# Altium integrated library Analog Devices Data Converters Digital-to-Analog Converters.IntLib: 2231 symbols (part 137 of 181)
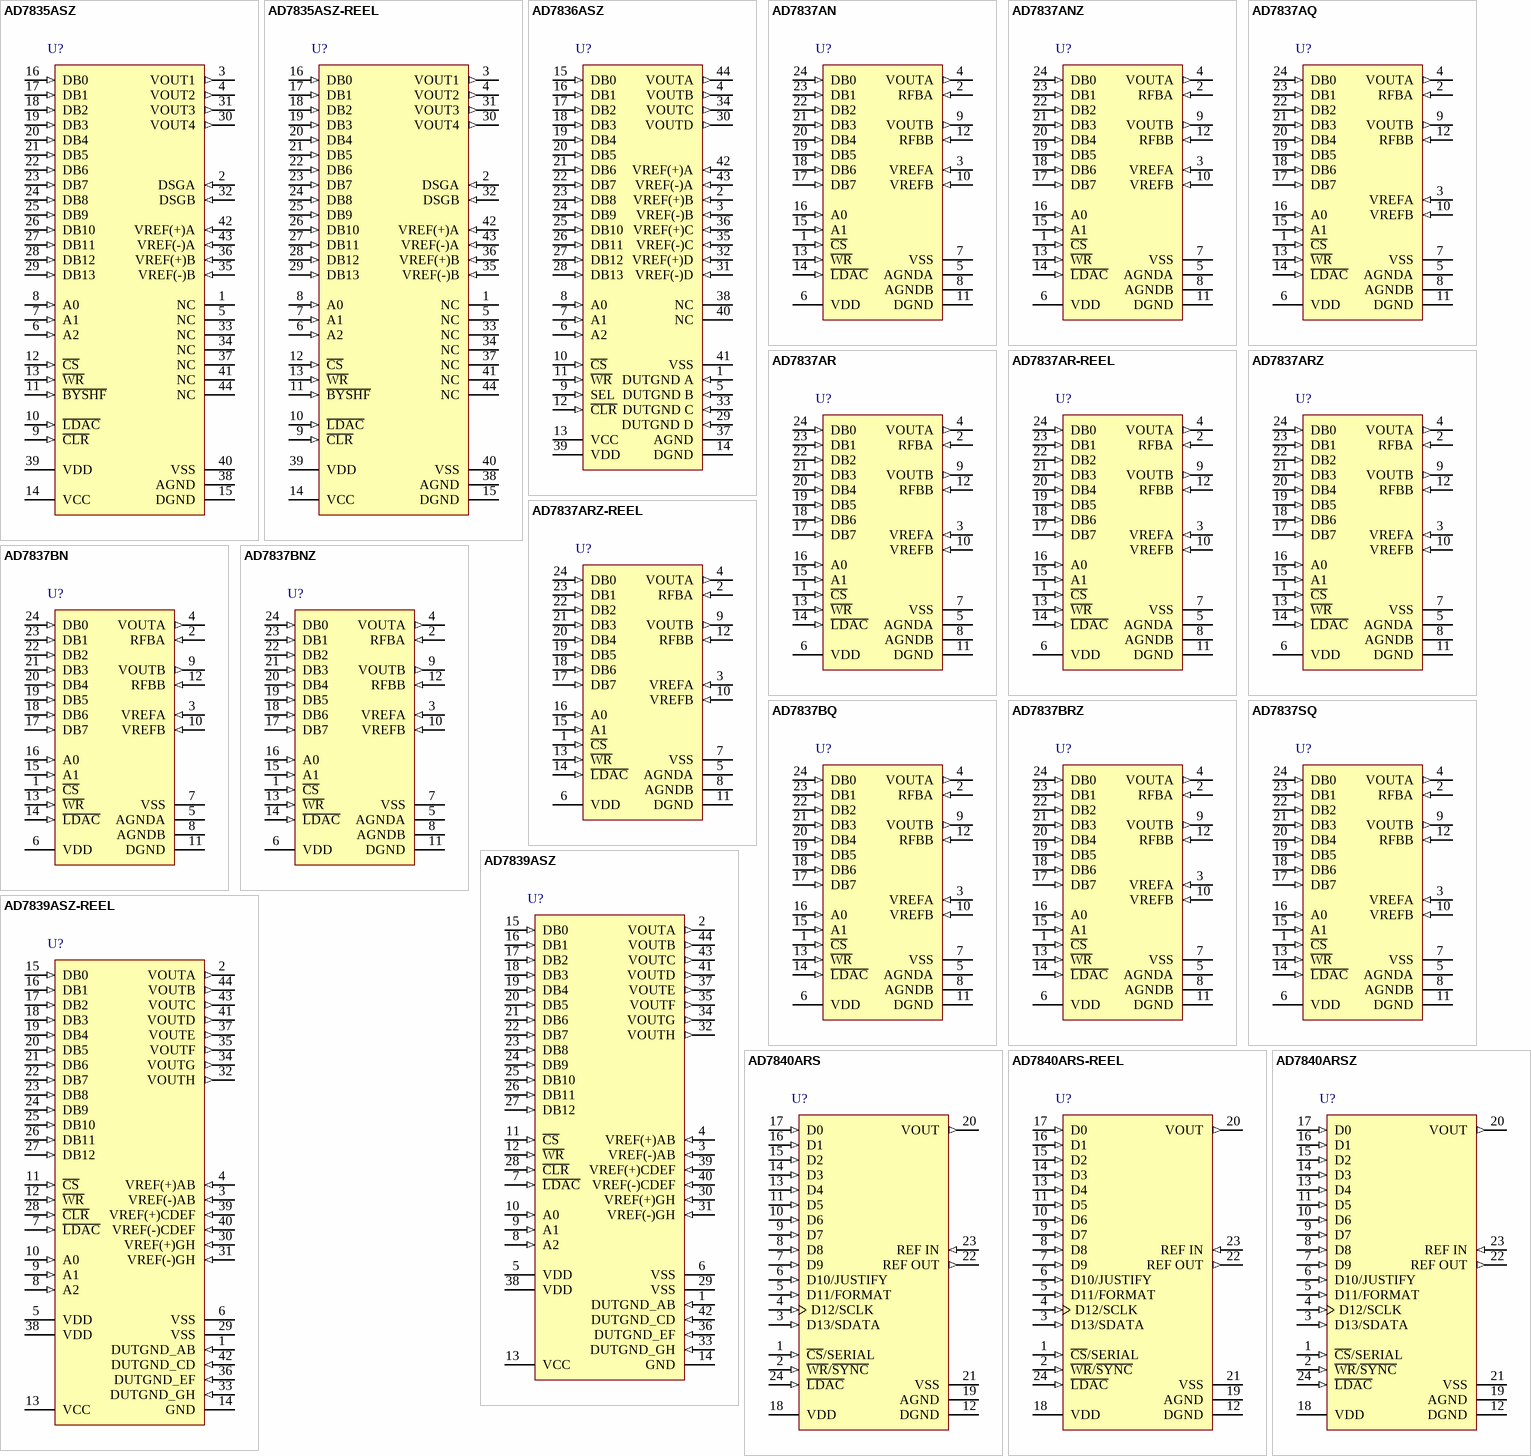
[diagram p250: symbols AD7835ASZ to AD7840ARSZ]

## AD7837ARZ
designator U?
Dual 12-Bit LC2MOS Complete MDAC, -40 to +85 degC, RW-24, Pb-Free, Tube; Generic Part Number: AD7837; Manufacturer: Analog Devices; PartNumber: AD7837ARZ; # DAC Outputs: 2; Max V+: 15.75V; Op Pwr Diss: 210mW; Resolution (Bits): 12; Settling Time: 4µs; Single Supply: No; DatasheetVersion: C01007a-0-8/00 (rev. C); PackageVersion: 060706-A; PackageReference: RW-24; PackageDescription: 24-Lead Standard Small Outline Package [SOIC_W]; Supplier 1: Digi-Key; Supplier Part Number 1: AD7837ARZ-ND; Supplier 2: Newark; Supplier Part Number 2: 59K5628; Supplier 3: Mouser; Supplier Part Number 3: 584-AD7837ARZ; Packing: Tube; RoHS: Y; Mounting Technology: Surface Mount; Code_JEDEC: MS-013-AD; ComponentLink1Description: Manufacturer URL; ComponentLink1URL: http://www.analog.com/en/index.html; ComponentLink2Description: Datasheet; ComponentLink2URL: http://www.analog.com/static/imported-files/data_sheets/AD7837_7847.pdf; ComponentLink3Description: Package Specification; ComponentLink3URL: http://www.analog.com/static/imported-files/packages/33665150946139RW_24.pdf; ComponentLink4Description: Product URL; ComponentLink4URL: http://www.analog.com/en/digital-to-analog-converters/da-converters/ad7837/products/product.html
footprint RW-24_N (SOIC, 24-Leads, Body 15.4x7.5mm, Pitch 1.27mm, IPC Medium Density)
footprint RW-24_L (SOIC, 24-Leads, Body 15.4x7.5mm, Pitch 1.27mm, IPC High Density)
footprint RW-24_M (SOIC, 24-Leads, Body 15.4x7.5mm, Pitch 1.27mm, IPC Low Density)
pins: 1 ~{CS} (in) "Chip Select. Active low logic input. The device is selected when this input is active.", 2 RFBA (in) "Amplifier Feedback Resistor for DAC A.", 3 VREFA (in) "Reference Input Voltage for DAC A. This may be an ac or dc signal.", 4 VOUTA (out) "Analog Output Voltage from DAC A.", 5 AGNDA (power) "Analog Ground for DAC A.", 6 VDD (power) "Positive Power Supply.", 7 VSS (power) "Negative Power Supply.", 8 AGNDB (power) "Analog Ground for DAC B.", 9 VOUTB (out) "Analog Output Voltage from DAC B.", 10 VREFB (in) "Reference Input Voltage for DAC B. This may be an ac or dc signal.", 11 DGND (power) "Digital Ground. Ground reference for digital circuitry.", 12 RFBB (in) "Amplifier Feedback Resistor for DAC B.", 13 ~{WR} (in) "Write Input. W\R\ is an active low logic input which is used in conjunction with C\S\, A0 and A1 to write data to the input latches.", 14 ~{LDAC} (in) "DAC Update Logic Input. Data is transferred from the input latches to the DAC latches when L\D\A\C\ is taken low.", 15 A1 (in) "Address Input. Most significant address input for input latches (see Table II).", 16 A0 (in) "Address Input. Least significant address input for input latches (see Table II).", 17 DB7 (in) "Data Bit 7.", 18 DB6 (in) "Data Bit 6.", 19 DB5 (in) "Data Bit 5.", 20 DB4 (in) "Data Bit 4.", 21 DB3 (in) "Data Bit 3 or Data Bit 11 (MSB)", 22 DB2 (in) "Data Bit 2 or Data Bit 10", 23 DB1 (in) "Data Bit 1 or Data Bit 9", 24 DB0 (in) "Data Bit 0 (LSB) or Data Bit 8"

## AD7837ARZ-REEL
designator U?
Dual 12-Bit LC2MOS Complete MDAC, -40 to +85 degC, RW-24, Pb-Free, Reel; Generic Part Number: AD7837; Manufacturer: Analog Devices; PartNumber: AD7837ARZ-REEL; # DAC Outputs: 2; Max V+: 15.75V; Op Pwr Diss: 210mW; Resolution (Bits): 12; Settling Time: 4µs; Single Supply: No; DatasheetVersion: C01007a-0-8/00 (rev. C); PackageVersion: 060706-A; PackageReference: RW-24; PackageDescription: 24-Lead Standard Small Outline Package [SOIC_W]; Supplier 1: Digi-Key; Supplier Part Number 1: AD7837ARZ-REEL-ND; Supplier 2: Mouser; Supplier Part Number 2: 584-AD7837ARZ-R; Packing: Reel; RoHS: Y; Mounting Technology: Surface Mount; Code_JEDEC: MS-013-AD; ComponentLink1Description: Manufacturer URL; ComponentLink1URL: http://www.analog.com/en/index.html; ComponentLink2Description: Datasheet; ComponentLink2URL: http://www.analog.com/static/imported-files/data_sheets/AD7837_7847.pdf; ComponentLink3Description: Package Specification; ComponentLink3URL: http://www.analog.com/static/imported-files/packages/33665150946139RW_24.pdf; ComponentLink4Description: Product URL; ComponentLink4URL: http://www.analog.com/en/digital-to-analog-converters/da-converters/ad7837/products/product.html
footprint RW-24_N (SOIC, 24-Leads, Body 15.4x7.5mm, Pitch 1.27mm, IPC Medium Density)
footprint RW-24_L (SOIC, 24-Leads, Body 15.4x7.5mm, Pitch 1.27mm, IPC High Density)
footprint RW-24_M (SOIC, 24-Leads, Body 15.4x7.5mm, Pitch 1.27mm, IPC Low Density)
pins: 1 ~{CS} (in) "Chip Select. Active low logic input. The device is selected when this input is active.", 2 RFBA (in) "Amplifier Feedback Resistor for DAC A.", 3 VREFA (in) "Reference Input Voltage for DAC A. This may be an ac or dc signal.", 4 VOUTA (out) "Analog Output Voltage from DAC A.", 5 AGNDA (power) "Analog Ground for DAC A.", 6 VDD (power) "Positive Power Supply.", 7 VSS (power) "Negative Power Supply.", 8 AGNDB (power) "Analog Ground for DAC B.", 9 VOUTB (out) "Analog Output Voltage from DAC B.", 10 VREFB (in) "Reference Input Voltage for DAC B. This may be an ac or dc signal.", 11 DGND (power) "Digital Ground. Ground reference for digital circuitry.", 12 RFBB (in) "Amplifier Feedback Resistor for DAC B.", 13 ~{WR} (in) "Write Input. W\R\ is an active low logic input which is used in conjunction with C\S\, A0 and A1 to write data to the input latches.", 14 ~{LDAC} (in) "DAC Update Logic Input. Data is transferred from the input latches to the DAC latches when L\D\A\C\ is taken low.", 15 A1 (in) "Address Input. Most significant address input for input latches (see Table II).", 16 A0 (in) "Address Input. Least significant address input for input latches (see Table II).", 17 DB7 (in) "Data Bit 7.", 18 DB6 (in) "Data Bit 6.", 19 DB5 (in) "Data Bit 5.", 20 DB4 (in) "Data Bit 4.", 21 DB3 (in) "Data Bit 3 or Data Bit 11 (MSB)", 22 DB2 (in) "Data Bit 2 or Data Bit 10", 23 DB1 (in) "Data Bit 1 or Data Bit 9", 24 DB0 (in) "Data Bit 0 (LSB) or Data Bit 8"

## AD7837BN
designator U?
Dual 12-Bit LC2MOS Complete MDAC, -40 to +85 degC, N-24-1, Tube; Generic Part Number: AD7837; Manufacturer: Analog Devices; PartNumber: AD7837BN; # DAC Outputs: 2; Max V+: 15.75V; Op Pwr Diss: 210mW; Resolution (Bits): 12; Settling Time: 4µs; Single Supply: No; DatasheetVersion: C01007a-0-8/00 (rev. C); PackageVersion: 071006-A; PackageReference: N-24-1; PackageDescription: 24-Lead Plastic Dual In-Line Package [PDIP] Narrow Body; Supplier 1: Digi-Key; Supplier Part Number 1: AD7837BN-ND; Supplier 2: Mouser; Supplier Part Number 2: 584-AD7837BN; Packing: Tube; RoHS: N; Mounting Technology: Through Hole; Code_JEDEC: MS-001; ComponentLink1Description: Manufacturer URL; ComponentLink1URL: http://www.analog.com/en/index.html; ComponentLink2Description: Datasheet; ComponentLink2URL: http://www.analog.com/static/imported-files/data_sheets/AD7837_7847.pdf; ComponentLink3Description: Package Specification; ComponentLink3URL: http://www.analog.com/static/imported-files/packages/50726455539629N_24_1.pdf; ComponentLink4Description: Product URL; ComponentLink4URL: http://www.analog.com/en/digital-to-analog-converters/da-converters/ad7837/products/product.html
footprint N-24-1 (DIP, 24-Leads, Row Spacing 7.62mm, Pitch 2.54mm, Body 31.9x6.6mm)
pins: 1 ~{CS} (in) "Chip Select. Active low logic input. The device is selected when this input is active.", 2 RFBA (in) "Amplifier Feedback Resistor for DAC A.", 3 VREFA (in) "Reference Input Voltage for DAC A. This may be an ac or dc signal.", 4 VOUTA (out) "Analog Output Voltage from DAC A.", 5 AGNDA (power) "Analog Ground for DAC A.", 6 VDD (power) "Positive Power Supply.", 7 VSS (power) "Negative Power Supply.", 8 AGNDB (power) "Analog Ground for DAC B.", 9 VOUTB (out) "Analog Output Voltage from DAC B.", 10 VREFB (in) "Reference Input Voltage for DAC B. This may be an ac or dc signal.", 11 DGND (power) "Digital Ground. Ground reference for digital circuitry.", 12 RFBB (in) "Amplifier Feedback Resistor for DAC B.", 13 ~{WR} (in) "Write Input. W\R\ is an active low logic input which is used in conjunction with C\S\, A0 and A1 to write data to the input latches.", 14 ~{LDAC} (in) "DAC Update Logic Input. Data is transferred from the input latches to the DAC latches when L\D\A\C\ is taken low.", 15 A1 (in) "Address Input. Most significant address input for input latches (see Table II).", 16 A0 (in) "Address Input. Least significant address input for input latches (see Table II).", 17 DB7 (in) "Data Bit 7.", 18 DB6 (in) "Data Bit 6.", 19 DB5 (in) "Data Bit 5.", 20 DB4 (in) "Data Bit 4.", 21 DB3 (in) "Data Bit 3 or Data Bit 11 (MSB)", 22 DB2 (in) "Data Bit 2 or Data Bit 10", 23 DB1 (in) "Data Bit 1 or Data Bit 9", 24 DB0 (in) "Data Bit 0 (LSB) or Data Bit 8"

## AD7837BNZ
designator U?
Dual 12-Bit LC2MOS Complete MDAC, -40 to +85 degC, N-24-1, Pb-Free, Tube; Generic Part Number: AD7837; Manufacturer: Analog Devices; PartNumber: AD7837BNZ; # DAC Outputs: 2; Max V+: 15.75V; Op Pwr Diss: 210mW; Resolution (Bits): 12; Settling Time: 4µs; Single Supply: No; DatasheetVersion: C01007a-0-8/00 (rev. C); PackageVersion: 071006-A; PackageReference: N-24-1; PackageDescription: 24-Lead Plastic Dual In-Line Package [PDIP] Narrow Body; Supplier 1: Digi-Key; Supplier Part Number 1: AD7837BNZ-ND; Supplier 2: Newark; Supplier Part Number 2: 59K5630; Supplier 3: Mouser; Supplier Part Number 3: 584-AD7837BNZ; Packing: Tube; RoHS: Y; Mounting Technology: Through Hole; Code_JEDEC: MS-001; ComponentLink1Description: Manufacturer URL; ComponentLink1URL: http://www.analog.com/en/index.html; ComponentLink2Description: Datasheet; ComponentLink2URL: http://www.analog.com/static/imported-files/data_sheets/AD7837_7847.pdf; ComponentLink3Description: Package Specification; ComponentLink3URL: http://www.analog.com/static/imported-files/packages/50726455539629N_24_1.pdf; ComponentLink4Description: Product URL; ComponentLink4URL: http://www.analog.com/en/digital-to-analog-converters/da-converters/ad7837/products/product.html
footprint N-24-1 (DIP, 24-Leads, Row Spacing 7.62mm, Pitch 2.54mm, Body 31.9x6.6mm)
pins: 1 ~{CS} (in) "Chip Select. Active low logic input. The device is selected when this input is active.", 2 RFBA (in) "Amplifier Feedback Resistor for DAC A.", 3 VREFA (in) "Reference Input Voltage for DAC A. This may be an ac or dc signal.", 4 VOUTA (out) "Analog Output Voltage from DAC A.", 5 AGNDA (power) "Analog Ground for DAC A.", 6 VDD (power) "Positive Power Supply.", 7 VSS (power) "Negative Power Supply.", 8 AGNDB (power) "Analog Ground for DAC B.", 9 VOUTB (out) "Analog Output Voltage from DAC B.", 10 VREFB (in) "Reference Input Voltage for DAC B. This may be an ac or dc signal.", 11 DGND (power) "Digital Ground. Ground reference for digital circuitry.", 12 RFBB (in) "Amplifier Feedback Resistor for DAC B.", 13 ~{WR} (in) "Write Input. W\R\ is an active low logic input which is used in conjunction with C\S\, A0 and A1 to write data to the input latches.", 14 ~{LDAC} (in) "DAC Update Logic Input. Data is transferred from the input latches to the DAC latches when L\D\A\C\ is taken low.", 15 A1 (in) "Address Input. Most significant address input for input latches (see Table II).", 16 A0 (in) "Address Input. Least significant address input for input latches (see Table II).", 17 DB7 (in) "Data Bit 7.", 18 DB6 (in) "Data Bit 6.", 19 DB5 (in) "Data Bit 5.", 20 DB4 (in) "Data Bit 4.", 21 DB3 (in) "Data Bit 3 or Data Bit 11 (MSB)", 22 DB2 (in) "Data Bit 2 or Data Bit 10", 23 DB1 (in) "Data Bit 1 or Data Bit 9", 24 DB0 (in) "Data Bit 0 (LSB) or Data Bit 8"

## AD7837BQ
designator U?
Dual 12-Bit LC2MOS Complete MDAC, -40 to +85 degC, Q-24, Tube; Generic Part Number: AD7837; Manufacturer: Analog Devices; PartNumber: AD7837BQ; # DAC Outputs: 2; Max V+: 15.75V; Op Pwr Diss: 210mW; Resolution (Bits): 12; Settling Time: 4µs; Single Supply: No; DatasheetVersion: C01007a-0-8/00 (rev. C); PackageVersion: 2000; PackageReference: Q-24; PackageDescription: 24-Lead Ceramic Dual In-Line Package [CERDIP]; Supplier 1: Digi-Key; Supplier Part Number 1: AD7837BQ-ND; Supplier 2: Mouser; Supplier Part Number 2: 584-AD7837BQ; Packing: Tube; RoHS: N; Mounting Technology: Through Hole; ComponentLink1Description: Manufacturer URL; ComponentLink1URL: http://www.analog.com/en/index.html; ComponentLink2Description: Datasheet; ComponentLink2URL: http://www.analog.com/static/imported-files/data_sheets/AD7837_7847.pdf; ComponentLink3Description: Package Specification; ComponentLink3URL: http://www.analog.com/static/imported-files/data_sheets/AD7837_7847.pdf; ComponentLink4Description: Product URL; ComponentLink4URL: http://www.analog.com/en/digital-to-analog-converters/da-converters/ad7837/products/product.html
footprint Q-24 (DIP, 24-Leads, Row Spacing 7.62mm, Pitch 2.54mm, Body 31.9x6.7mm)
pins: 1 ~{CS} (in) "Chip Select. Active low logic input. The device is selected when this input is active.", 2 RFBA (in) "Amplifier Feedback Resistor for DAC A.", 3 VREFA (in) "Reference Input Voltage for DAC A. This may be an ac or dc signal.", 4 VOUTA (out) "Analog Output Voltage from DAC A.", 5 AGNDA (power) "Analog Ground for DAC A.", 6 VDD (power) "Positive Power Supply.", 7 VSS (power) "Negative Power Supply.", 8 AGNDB (power) "Analog Ground for DAC B.", 9 VOUTB (out) "Analog Output Voltage from DAC B.", 10 VREFB (in) "Reference Input Voltage for DAC B. This may be an ac or dc signal.", 11 DGND (power) "Digital Ground. Ground reference for digital circuitry.", 12 RFBB (in) "Amplifier Feedback Resistor for DAC B.", 13 ~{WR} (in) "Write Input. W\R\ is an active low logic input which is used in conjunction with C\S\, A0 and A1 to write data to the input latches.", 14 ~{LDAC} (in) "DAC Update Logic Input. Data is transferred from the input latches to the DAC latches when L\D\A\C\ is taken low.", 15 A1 (in) "Address Input. Most significant address input for input latches (see Table II).", 16 A0 (in) "Address Input. Least significant address input for input latches (see Table II).", 17 DB7 (in) "Data Bit 7.", 18 DB6 (in) "Data Bit 6.", 19 DB5 (in) "Data Bit 5.", 20 DB4 (in) "Data Bit 4.", 21 DB3 (in) "Data Bit 3 or Data Bit 11 (MSB)", 22 DB2 (in) "Data Bit 2 or Data Bit 10", 23 DB1 (in) "Data Bit 1 or Data Bit 9", 24 DB0 (in) "Data Bit 0 (LSB) or Data Bit 8"

## AD7837BRZ
designator U?
Dual 12-Bit LC2MOS Complete MDAC, -40 to +85 degC, RW-24, Pb-Free, Tube; Generic Part Number: AD7837; Manufacturer: Analog Devices; PartNumber: AD7837BRZ; # DAC Outputs: 2; Max V+: 15.75V; Op Pwr Diss: 210mW; Resolution (Bits): 12; Settling Time: 4µs; Single Supply: No; DatasheetVersion: C01007a-0-8/00 (rev. C); PackageVersion: 060706-A; PackageReference: RW-24; PackageDescription: 24-Lead Standard Small Outline Package [SOIC_W]; Supplier 1: Digi-Key; Supplier Part Number 1: AD7837BRZ-ND; Supplier 2: Farnell; Supplier Part Number 2: 1438620; Supplier 3: Mouser; Supplier Part Number 3: 584-AD7837BRZ; Packing: Tube; RoHS: Y; Mounting Technology: Surface Mount; Code_JEDEC: MS-013-AD; ComponentLink1Description: Manufacturer URL; ComponentLink1URL: http://www.analog.com/en/index.html; ComponentLink2Description: Datasheet; ComponentLink2URL: http://www.analog.com/static/imported-files/data_sheets/AD7837_7847.pdf; ComponentLink3Description: Package Specification; ComponentLink3URL: http://www.analog.com/static/imported-files/packages/33665150946139RW_24.pdf; ComponentLink4Description: Product URL; ComponentLink4URL: http://www.analog.com/en/digital-to-analog-converters/da-converters/ad7837/products/product.html
footprint RW-24_N (SOIC, 24-Leads, Body 15.4x7.5mm, Pitch 1.27mm, IPC Medium Density)
footprint RW-24_L (SOIC, 24-Leads, Body 15.4x7.5mm, Pitch 1.27mm, IPC High Density)
footprint RW-24_M (SOIC, 24-Leads, Body 15.4x7.5mm, Pitch 1.27mm, IPC Low Density)
pins: 1 ~{CS} (in) "Chip Select. Active low logic input. The device is selected when this input is active.", 2 RFBA (in) "Amplifier Feedback Resistor for DAC A.", 3 VREFA (in) "Reference Input Voltage for DAC A. This may be an ac or dc signal.", 4 VOUTA (out) "Analog Output Voltage from DAC A.", 5 AGNDA (power) "Analog Ground for DAC A.", 6 VDD (power) "Positive Power Supply.", 7 VSS (power) "Negative Power Supply.", 8 AGNDB (power) "Analog Ground for DAC B.", 9 VOUTB (out) "Analog Output Voltage from DAC B.", 10 VREFB (in) "Reference Input Voltage for DAC B. This may be an ac or dc signal.", 11 DGND (power) "Digital Ground. Ground reference for digital circuitry.", 12 RFBB (in) "Amplifier Feedback Resistor for DAC B.", 13 ~{WR} (in) "Write Input. W\R\ is an active low logic input which is used in conjunction with C\S\, A0 and A1 to write data to the input latches.", 14 ~{LDAC} (in) "DAC Update Logic Input. Data is transferred from the input latches to the DAC latches when L\D\A\C\ is taken low.", 15 A1 (in) "Address Input. Most significant address input for input latches (see Table II).", 16 A0 (in) "Address Input. Least significant address input for input latches (see Table II).", 17 DB7 (in) "Data Bit 7.", 18 DB6 (in) "Data Bit 6.", 19 DB5 (in) "Data Bit 5.", 20 DB4 (in) "Data Bit 4.", 21 DB3 (in) "Data Bit 3 or Data Bit 11 (MSB)", 22 DB2 (in) "Data Bit 2 or Data Bit 10", 23 DB1 (in) "Data Bit 1 or Data Bit 9", 24 DB0 (in) "Data Bit 0 (LSB) or Data Bit 8"

## AD7837SQ
designator U?
Dual 12-Bit LC2MOS Complete MDAC, -55 to +125 degC, Q-24, Tube; Generic Part Number: AD7837; Manufacturer: Analog Devices; PartNumber: AD7837SQ; # DAC Outputs: 2; Max V+: 15.75V; Op Pwr Diss: 210mW; Resolution (Bits): 12; Settling Time: 4µs; Single Supply: No; DatasheetVersion: C01007a-0-8/00 (rev. C); PackageVersion: 2000; PackageReference: Q-24; PackageDescription: 24-Lead Ceramic Dual In-Line Package [CERDIP]; Supplier 1: Digi-Key; Supplier Part Number 1: AD7837SQ-ND; Supplier 2: Mouser; Supplier Part Number 2: 584-AD7837SQ; Packing: Tube; RoHS: N; Mounting Technology: Through Hole; ComponentLink1Description: Manufacturer URL; ComponentLink1URL: http://www.analog.com/en/index.html; ComponentLink2Description: Datasheet; ComponentLink2URL: http://www.analog.com/static/imported-files/data_sheets/AD7837_7847.pdf; ComponentLink3Description: Package Specification; ComponentLink3URL: http://www.analog.com/static/imported-files/data_sheets/AD7837_7847.pdf; ComponentLink4Description: Product URL; ComponentLink4URL: http://www.analog.com/en/digital-to-analog-converters/da-converters/ad7837/products/product.html
footprint Q-24 (DIP, 24-Leads, Row Spacing 7.62mm, Pitch 2.54mm, Body 31.9x6.7mm)
pins: 1 ~{CS} (in) "Chip Select. Active low logic input. The device is selected when this input is active.", 2 RFBA (in) "Amplifier Feedback Resistor for DAC A.", 3 VREFA (in) "Reference Input Voltage for DAC A. This may be an ac or dc signal.", 4 VOUTA (out) "Analog Output Voltage from DAC A.", 5 AGNDA (power) "Analog Ground for DAC A.", 6 VDD (power) "Positive Power Supply.", 7 VSS (power) "Negative Power Supply.", 8 AGNDB (power) "Analog Ground for DAC B.", 9 VOUTB (out) "Analog Output Voltage from DAC B.", 10 VREFB (in) "Reference Input Voltage for DAC B. This may be an ac or dc signal.", 11 DGND (power) "Digital Ground. Ground reference for digital circuitry.", 12 RFBB (in) "Amplifier Feedback Resistor for DAC B.", 13 ~{WR} (in) "Write Input. W\R\ is an active low logic input which is used in conjunction with C\S\, A0 and A1 to write data to the input latches.", 14 ~{LDAC} (in) "DAC Update Logic Input. Data is transferred from the input latches to the DAC latches when L\D\A\C\ is taken low.", 15 A1 (in) "Address Input. Most significant address input for input latches (see Table II).", 16 A0 (in) "Address Input. Least significant address input for input latches (see Table II).", 17 DB7 (in) "Data Bit 7.", 18 DB6 (in) "Data Bit 6.", 19 DB5 (in) "Data Bit 5.", 20 DB4 (in) "Data Bit 4.", 21 DB3 (in) "Data Bit 3 or Data Bit 11 (MSB)", 22 DB2 (in) "Data Bit 2 or Data Bit 10", 23 DB1 (in) "Data Bit 1 or Data Bit 9", 24 DB0 (in) "Data Bit 0 (LSB) or Data Bit 8"

## AD7839ASZ
designator U?
Octal 13-Bit Digital-to-Analog Converter with Parallel Interface, -40 to +85 degC, S-44-2, Pb-Free, Tray; Generic Part Number: AD7839; Manufacturer: Analog Devices; PartNumber: AD7839ASZ; # DAC Outputs: 8; Max V+: 15.75V; Op Pwr Diss: 303mW; Resolution (Bits): 13; Settling Time: 30µs; Single Supply: No; DatasheetVersion: Rev.0; PackageVersion: 041807-A; PackageReference: S-44-2; PackageDescription: 44-Lead Metric Quad Flat Package [MQFP]; Supplier 1: Digi-Key; Supplier Part Number 1: AD7839ASZ-ND; Supplier 2: Farnell; Supplier Part Number 2: 1438622; Supplier 3: Newark; Supplier Part Number 3: 59K5632; Supplier 4: Mouser; Supplier Part Number 4: 584-AD7839ASZ; Packing: Tray; RoHS: Y; Mounting Technology: Surface Mount; Code_JEDEC: MO-122-AA-1; ComponentLink1Description: Manufacturer URL; ComponentLink1URL: http://www.analog.com/en/index.html; ComponentLink2Description: Datasheet; ComponentLink2URL: http://www.analog.com/static/imported-files/data_sheets/AD7839.pdf; ComponentLink3Description: Package Specification; ComponentLink3URL: http://www.analog.com/static/imported-files/packages/209183S_44_2.pdf; ComponentLink4Description: Product URL; ComponentLink4URL: http://www.analog.com/en/digital-to-analog-converters/da-converters/ad7839/products/product.html
footprint S-44-2_N (QFP, 44-Leads, Body 10x10mm, Pitch 0.8mm, IPC Medium Density)
footprint S-44-2_L (QFP, 44-Leads, Body 10x10mm, Pitch 0.8mm, IPC High Density)
footprint S-44-2_M (QFP, 44-Leads, Body 10x10mm, Pitch 0.8mm, IPC Low Density)
pins: 1 DUTGND_AB (in) "Device Sense Ground for DACs A and B. VOUTA and VOUTB are referenced to the voltage applied to this pin.", 2 VOUTA (out) "DAC Output.", 3 VREF(-)AB (in) "Reference Inputs for DACs A and B. These reference voltages are referred to GND.", 4 VREF(+)AB (in) "Reference Inputs for DACs A and B. These reference voltages are referred to GND.", 5 VDD (power) "Positive Analog Power Supply; +15 V +/- 5%.", 6 VSS (power) "Negative Analog Power Supply; -15 V +/- 5%.", 7 ~{LDAC} (in) "Load DAC Logic Input (active low). When this logic input is taken low the contents of the input registers are transferred to their respective DAC registers. L\D\A\C\ can be tied permanently low enabling the outputs to be (See Datasheet)", 8 A2 (in) "Address input. A2 is decoded to select one of the eight input registers for a data transfer.", 9 A1 (in) "Address input. A1 is decoded to select one of the eight input registers for a data transfer.", 10 A0 (in) "Address input. A0 is decoded to select one of the eight input registers for a data transfer.", 11 ~{CS} (in) "Level-Triggered Chip Select Input (active low). The device is selected when this input is low.", 12 ~{WR} (in) "Level-Triggered Write Input (active low), used in conjunction with C\S\ to write data to the AD7839 input registers. Data is latched into the selected input register on the rising edge of W\R\.", 13 VCC (power) "Logic Power Supply; +5 V +/- 5%.", 14 GND (power) "Ground.", 15 DB0 (in) "Parallel Data Input. DB0 is the LSB.", 16 DB1 (in) "Parallel Data Input.", 17 DB2 (in) "Parallel Data Input.", 18 DB3 (in) "Parallel Data Input.", 19 DB4 (in) "Parallel Data Input.", 20 DB5 (in) "Parallel Data Input.", 21 DB6 (in) "Parallel Data Input.", 22 DB7 (in) "Parallel Data Input.", 23 DB8 (in) "Parallel Data Input.", 24 DB9 (in) "Parallel Data Input.", 25 DB10 (in) "Parallel Data Input.", 26 DB11 (in) "Parallel Data Input.", 27 DB12 (in) "Parallel Data Input. DB12 is the MSB.", 28 ~{CLR} (in) "Asynchronous Clear Input (level sensitive, active low). When this input is low, all analog outputs are switched to the externally set potential on the relevant DUTGND pin. The contents of input registers and DAC registers A (See Datasheet)", 29 VSS (power) "Negative Analog Power Supply; -15 V +/- 5%.", 30 VREF(+)GH (in) "Reference Inputs for DACs G and H. These reference voltages are referred to GND.", 31 VREF(-)GH (in) "Reference Inputs for DACs G and H. These reference voltages are referred to GND.", 32 VOUTH (out) "DAC Output.", 33 DUTGND_GH (in) "Device Sense Ground for DACs G and H. VOUTG and VOUTH are referenced to the voltage applied to this pin.", 34 VOUTG (out) "DAC Output.", 35 VOUTF (out) "DAC Output.", 36 DUTGND_EF (in) "Device Sense Ground for DACs E and F. VOUTE and VOUTF are referenced to the voltage applied to this pin.", 37 VOUTE (out) "DAC Output.", 38 VDD (power) "Positive Analog Power Supply; +15 V +/- 5%.", 39 VREF(+)CDEF (in) "Reference Inputs for DACs C, D, E and F. These reference voltages are referred to GND.", 40 VREF(-)CDEF (in) "Reference Inputs for DACs C, D, E and F. These reference voltages are referred to GND.", 41 VOUTD (out) "DAC Output.", 42 DUTGND_CD (in) "Device Sense Ground for DACs C and D. VOUTC and VOUTD are referenced to the voltage applied to this pin.", 43 VOUTC (out) "DAC Output.", 44 VOUTB (out) "DAC Output."

## AD7839ASZ-REEL
designator U?
Octal 13-Bit Digital-to-Analog Converter with Parallel Interface, -40 to +85 degC, S-44-2, Pb-Free, Reel; Generic Part Number: AD7839; Manufacturer: Analog Devices; PartNumber: AD7839ASZ-REEL; # DAC Outputs: 8; Max V+: 15.75V; Op Pwr Diss: 303mW; Resolution (Bits): 13; Settling Time: 30µs; Single Supply: No; DatasheetVersion: Rev.0; PackageVersion: 041807-A; PackageReference: S-44-2; PackageDescription: 44-Lead Metric Quad Flat Package [MQFP]; Supplier 1: Digi-Key; Supplier Part Number 1: AD7839ASZ-REEL-ND; Supplier 2: Mouser; Supplier Part Number 2: 584-AD7839ASZ-R; Packing: Reel; RoHS: Y; Mounting Technology: Surface Mount; Code_JEDEC: MO-122-AA-1; ComponentLink1Description: Manufacturer URL; ComponentLink1URL: http://www.analog.com/en/index.html; ComponentLink2Description: Datasheet; ComponentLink2URL: http://www.analog.com/static/imported-files/data_sheets/AD7839.pdf; ComponentLink3Description: Package Specification; ComponentLink3URL: http://www.analog.com/static/imported-files/packages/209183S_44_2.pdf; ComponentLink4Description: Product URL; ComponentLink4URL: http://www.analog.com/en/digital-to-analog-converters/da-converters/ad7839/products/product.html
footprint S-44-2_N (QFP, 44-Leads, Body 10x10mm, Pitch 0.8mm, IPC Medium Density)
footprint S-44-2_L (QFP, 44-Leads, Body 10x10mm, Pitch 0.8mm, IPC High Density)
footprint S-44-2_M (QFP, 44-Leads, Body 10x10mm, Pitch 0.8mm, IPC Low Density)
pins: 1 DUTGND_AB (in) "Device Sense Ground for DACs A and B. VOUTA and VOUTB are referenced to the voltage applied to this pin.", 2 VOUTA (out) "DAC Output.", 3 VREF(-)AB (in) "Reference Inputs for DACs A and B. These reference voltages are referred to GND.", 4 VREF(+)AB (in) "Reference Inputs for DACs A and B. These reference voltages are referred to GND.", 5 VDD (power) "Positive Analog Power Supply; +15 V +/- 5%.", 6 VSS (power) "Negative Analog Power Supply; -15 V +/- 5%.", 7 ~{LDAC} (in) "Load DAC Logic Input (active low). When this logic input is taken low the contents of the input registers are transferred to their respective DAC registers. L\D\A\C\ can be tied permanently low enabling the outputs to be (See Datasheet)", 8 A2 (in) "Address input. A2 is decoded to select one of the eight input registers for a data transfer.", 9 A1 (in) "Address input. A1 is decoded to select one of the eight input registers for a data transfer.", 10 A0 (in) "Address input. A0 is decoded to select one of the eight input registers for a data transfer.", 11 ~{CS} (in) "Level-Triggered Chip Select Input (active low). The device is selected when this input is low.", 12 ~{WR} (in) "Level-Triggered Write Input (active low), used in conjunction with C\S\ to write data to the AD7839 input registers. Data is latched into the selected input register on the rising edge of W\R\.", 13 VCC (power) "Logic Power Supply; +5 V +/- 5%.", 14 GND (power) "Ground.", 15 DB0 (in) "Parallel Data Input. DB0 is the LSB.", 16 DB1 (in) "Parallel Data Input.", 17 DB2 (in) "Parallel Data Input.", 18 DB3 (in) "Parallel Data Input.", 19 DB4 (in) "Parallel Data Input.", 20 DB5 (in) "Parallel Data Input.", 21 DB6 (in) "Parallel Data Input.", 22 DB7 (in) "Parallel Data Input.", 23 DB8 (in) "Parallel Data Input.", 24 DB9 (in) "Parallel Data Input.", 25 DB10 (in) "Parallel Data Input.", 26 DB11 (in) "Parallel Data Input.", 27 DB12 (in) "Parallel Data Input. DB12 is the MSB.", 28 ~{CLR} (in) "Asynchronous Clear Input (level sensitive, active low). When this input is low, all analog outputs are switched to the externally set potential on the relevant DUTGND pin. The contents of input registers and DAC registers A (See Datasheet)", 29 VSS (power) "Negative Analog Power Supply; -15 V +/- 5%.", 30 VREF(+)GH (in) "Reference Inputs for DACs G and H. These reference voltages are referred to GND.", 31 VREF(-)GH (in) "Reference Inputs for DACs G and H. These reference voltages are referred to GND.", 32 VOUTH (out) "DAC Output.", 33 DUTGND_GH (in) "Device Sense Ground for DACs G and H. VOUTG and VOUTH are referenced to the voltage applied to this pin.", 34 VOUTG (out) "DAC Output.", 35 VOUTF (out) "DAC Output.", 36 DUTGND_EF (in) "Device Sense Ground for DACs E and F. VOUTE and VOUTF are referenced to the voltage applied to this pin.", 37 VOUTE (out) "DAC Output.", 38 VDD (power) "Positive Analog Power Supply; +15 V +/- 5%.", 39 VREF(+)CDEF (in) "Reference Inputs for DACs C, D, E and F. These reference voltages are referred to GND.", 40 VREF(-)CDEF (in) "Reference Inputs for DACs C, D, E and F. These reference voltages are referred to GND.", 41 VOUTD (out) "DAC Output.", 42 DUTGND_CD (in) "Device Sense Ground for DACs C and D. VOUTC and VOUTD are referenced to the voltage applied to this pin.", 43 VOUTC (out) "DAC Output.", 44 VOUTB (out) "DAC Output."

## AD7840ARS
designator U?
Single 14-Bit LC2MOS Complete Digital-to-Analog Converter, -25 to +85 degC, RS-24, Tube; Generic Part Number: AD7840; Manufacturer: Analog Devices; PartNumber: AD7840ARS; # DAC Outputs: 1; Max V+: 5.25V; Op Pwr Diss: 110mW; Resolution (Bits): 14; Settling Time: 2.5µs; Single Supply: No; DatasheetVersion: Rev.B; PackageVersion: Jan-2004; PackageReference: RS-24; PackageDescription: 24-Lead Shrink Small Outline Package [SSOP]; Supplier 1: Digi-Key; Supplier Part Number 1: AD7840ARS-ND; Supplier 2: Mouser; Supplier Part Number 2: 584-AD7840ARS; Packing: Tube; RoHS: N; Mounting Technology: Surface Mount; Code_JEDEC: MO-150-AG; ComponentLink1Description: Manufacturer URL; ComponentLink1URL: http://www.analog.com/en/index.html; ComponentLink2Description: Datasheet; ComponentLink2URL: http://www.analog.com/static/imported-files/data_sheets/AD7840.pdf; ComponentLink3Description: Package Specification; ComponentLink3URL: http://www.analog.com/static/imported-files/packages/320374674442511497835109639857509214147739880195087340RS_24.pdf; ComponentLink4Description: Product URL; ComponentLink4URL: http://www.analog.com/en/digital-to-analog-converters/da-converters/ad7840/products/product.html
footprint RS-24_N (SOP, 24-Leads, Body 8.2x5.3mm, Pitch 0.65mm, IPC Medium Density)
footprint RS-24_L (SOP, 24-Leads, Body 8.2x5.3mm, Pitch 0.65mm, IPC High Density)
footprint RS-24_M (SOP, 24-Leads, Body 8.2x5.3mm, Pitch 0.65mm, IPC Low Density)
pins: 1 ~{CS}/SERIAL (in) "Chip Select/Serial Input. When driven with normal logic levels, it is an active low logic input which is used in conjunction with W\R\ to load parallel data to the input latch. For applications where C\S\ is permanently low, (See Datasheet)", 2 ~{WR}/~{SYNC} (in) "Write/Frame Synchronization Input. In the parallel data mode, it is used in conjunction with C\S\ to load parallel data. In the serial mode of operation, this pin functions as a Frame Synchronization pulse with serial data (See Datasheet)", 3 D13/SDATA (in) "Data Bit 13(MSB)/Serial Data. When parallel data is selected, this pin is the D13 input. In serial mode, SDATA is the serial data input which is used in conjunction with S\Y\N\C\ and SCLK to transfer serial data to the (See Datasheet)", 4 D12/SCLK (in) "Data Bit 12/Serial Clock. When parallel data is selected, this pin is the D12 input. In the serial mode, it is the serial clock input. Serial data bits are latched on the falling edge of SCLK when S\Y\N\C\ is low.", 5 D11/FORMAT (in) "Data Bit 11/Data Format. When parallel data is selected, this pin is the D11 input. In serial mode, a Logic 1 on this input indicates that the MSB is the first valid bit in the serial data stream. A Logic 0 indicates that (See Datasheet)", 6 D10/JUSTIFY (in) "Data Bit 10/Data Justification. When parallel data is selected, this pin is the D10 input. In serial mode, this input controls the serial data justification (see Table I).", 7 D9 (in) "Data Bit 9. Parallel data input.", 8 D8 (in) "Data Bit 8. Parallel data input.", 9 D7 (in) "Data Bit 7. Parallel data input.", 10 D6 (in) "Data Bit 6. Parallel data input.", 11 D5 (in) "Data Bit 5. Parallel data input.", 12 DGND (power) "Digital Ground. Ground reference for digital circuitry.", 13 D4 (in) "Data Bit 4. Parallel data input.", 14 D3 (in) "Data Bit 3. Parallel data input.", 15 D2 (in) "Data Bit 2. Parallel data input.", 16 D1 (in) "Data Bit 1. Parallel data input.", 17 D0 (in) "Data Bit 0 (LSB). Parallel data input.", 18 VDD (power) "Positive Supply, +5 V +/- 5%.", 19 AGND (power) "Analog Ground. Ground reference for DAC, reference and output buffer amplifier.", 20 VOUT (out) "Analog Output Voltage. This is the buffer amplifier output voltage. Bipolar output range (+/-3 V with REF IN = +3 V).", 21 VSS (power) "Negative Supply Voltage, -5 V +/- 5%.", 22 REF OUT (out) "Voltage Reference Output. The internal 3 V analog reference is provided at this pin. To operate the AD7840 with internal reference, REF OUT should be connected to REF IN. The external load capability of the reference is 500 (See Datasheet)", 23 REF IN (in) "Voltage Reference Input. The reference voltage for the DAC is applied to this pin. It is internally buffered before being applied to the DAC. The nominal reference voltage for correct operation of the AD7840 is 3 V.", 24 ~{LDAC} (in) "Load DAC. Logic Input. A new word is loaded into the DAC latch from the input latch on the falling edge of this signal (see Interface Logic Information section). The AD7840 should be powered-up with L\D\A\C\ high. For (See Datasheet)"

## AD7840ARS-REEL
designator U?
Single 14-Bit LC2MOS Complete Digital-to-Analog Converter, -25 to +85 degC, RS-24, Reel; Generic Part Number: AD7840; Manufacturer: Analog Devices; PartNumber: AD7840ARS-REEL; # DAC Outputs: 1; Max V+: 5.25V; Op Pwr Diss: 110mW; Resolution (Bits): 14; Settling Time: 2.5µs; Single Supply: No; DatasheetVersion: Rev.B; PackageVersion: Jan-2004; PackageReference: RS-24; PackageDescription: 24-Lead Shrink Small Outline Package [SSOP]; Supplier 1: Digi-Key; Supplier Part Number 1: AD7840ARS-REEL-ND; Supplier 2: Newark; Supplier Part Number 2: 09B6074; Supplier 3: Mouser; Supplier Part Number 3: 584-AD7840ARS-R; Packing: Reel; RoHS: N; Mounting Technology: Surface Mount; Code_JEDEC: MO-150-AG; ComponentLink1Description: Manufacturer URL; ComponentLink1URL: http://www.analog.com/en/index.html; ComponentLink2Description: Datasheet; ComponentLink2URL: http://www.analog.com/static/imported-files/data_sheets/AD7840.pdf; ComponentLink3Description: Package Specification; ComponentLink3URL: http://www.analog.com/static/imported-files/packages/320374674442511497835109639857509214147739880195087340RS_24.pdf; ComponentLink4Description: Product URL; ComponentLink4URL: http://www.analog.com/en/digital-to-analog-converters/da-converters/ad7840/products/product.html
footprint RS-24_N (SOP, 24-Leads, Body 8.2x5.3mm, Pitch 0.65mm, IPC Medium Density)
footprint RS-24_L (SOP, 24-Leads, Body 8.2x5.3mm, Pitch 0.65mm, IPC High Density)
footprint RS-24_M (SOP, 24-Leads, Body 8.2x5.3mm, Pitch 0.65mm, IPC Low Density)
pins: 1 ~{CS}/SERIAL (in) "Chip Select/Serial Input. When driven with normal logic levels, it is an active low logic input which is used in conjunction with W\R\ to load parallel data to the input latch. For applications where C\S\ is permanently low, (See Datasheet)", 2 ~{WR}/~{SYNC} (in) "Write/Frame Synchronization Input. In the parallel data mode, it is used in conjunction with C\S\ to load parallel data. In the serial mode of operation, this pin functions as a Frame Synchronization pulse with serial data (See Datasheet)", 3 D13/SDATA (in) "Data Bit 13(MSB)/Serial Data. When parallel data is selected, this pin is the D13 input. In serial mode, SDATA is the serial data input which is used in conjunction with S\Y\N\C\ and SCLK to transfer serial data to the (See Datasheet)", 4 D12/SCLK (in) "Data Bit 12/Serial Clock. When parallel data is selected, this pin is the D12 input. In the serial mode, it is the serial clock input. Serial data bits are latched on the falling edge of SCLK when S\Y\N\C\ is low.", 5 D11/FORMAT (in) "Data Bit 11/Data Format. When parallel data is selected, this pin is the D11 input. In serial mode, a Logic 1 on this input indicates that the MSB is the first valid bit in the serial data stream. A Logic 0 indicates that (See Datasheet)", 6 D10/JUSTIFY (in) "Data Bit 10/Data Justification. When parallel data is selected, this pin is the D10 input. In serial mode, this input controls the serial data justification (see Table I).", 7 D9 (in) "Data Bit 9. Parallel data input.", 8 D8 (in) "Data Bit 8. Parallel data input.", 9 D7 (in) "Data Bit 7. Parallel data input.", 10 D6 (in) "Data Bit 6. Parallel data input.", 11 D5 (in) "Data Bit 5. Parallel data input.", 12 DGND (power) "Digital Ground. Ground reference for digital circuitry.", 13 D4 (in) "Data Bit 4. Parallel data input.", 14 D3 (in) "Data Bit 3. Parallel data input.", 15 D2 (in) "Data Bit 2. Parallel data input.", 16 D1 (in) "Data Bit 1. Parallel data input.", 17 D0 (in) "Data Bit 0 (LSB). Parallel data input.", 18 VDD (power) "Positive Supply, +5 V +/- 5%.", 19 AGND (power) "Analog Ground. Ground reference for DAC, reference and output buffer amplifier.", 20 VOUT (out) "Analog Output Voltage. This is the buffer amplifier output voltage. Bipolar output range (+/-3 V with REF IN = +3 V).", 21 VSS (power) "Negative Supply Voltage, -5 V +/- 5%.", 22 REF OUT (out) "Voltage Reference Output. The internal 3 V analog reference is provided at this pin. To operate the AD7840 with internal reference, REF OUT should be connected to REF IN. The external load capability of the reference is 500 (See Datasheet)", 23 REF IN (in) "Voltage Reference Input. The reference voltage for the DAC is applied to this pin. It is internally buffered before being applied to the DAC. The nominal reference voltage for correct operation of the AD7840 is 3 V.", 24 ~{LDAC} (in) "Load DAC. Logic Input. A new word is loaded into the DAC latch from the input latch on the falling edge of this signal (see Interface Logic Information section). The AD7840 should be powered-up with L\D\A\C\ high. For (See Datasheet)"

## AD7840ARSZ
designator U?
Single 14-Bit LC2MOS Complete Digital-to-Analog Converter, 0 to +70 degC, RS-24, Pb-Free, Tube; Generic Part Number: AD7840; Manufacturer: Analog Devices; PartNumber: AD7840ARSZ; # DAC Outputs: 1; Max V+: 5.25V; Op Pwr Diss: 110mW; Resolution (Bits): 14; Settling Time: 2.5µs; Single Supply: No; DatasheetVersion: Rev.B; PackageVersion: Jan-2004; PackageReference: RS-24; PackageDescription: 24-Lead Shrink Small Outline Package [SSOP]; Supplier 1: Digi-Key; Supplier Part Number 1: AD7840ARSZ-ND; Supplier 2: Mouser; Supplier Part Number 2: 584-AD7840ARSZ; Packing: Tube; RoHS: Y; Mounting Technology: Surface Mount; Code_JEDEC: MO-150-AG; ComponentLink1Description: Manufacturer URL; ComponentLink1URL: http://www.analog.com/en/index.html; ComponentLink2Description: Datasheet; ComponentLink2URL: http://www.analog.com/static/imported-files/data_sheets/AD7840.pdf; ComponentLink3Description: Package Specification; ComponentLink3URL: http://www.analog.com/static/imported-files/packages/320374674442511497835109639857509214147739880195087340RS_24.pdf; ComponentLink4Description: Product URL; ComponentLink4URL: http://www.analog.com/en/digital-to-analog-converters/da-converters/ad7840/products/product.html
footprint RS-24_N (SOP, 24-Leads, Body 8.2x5.3mm, Pitch 0.65mm, IPC Medium Density)
footprint RS-24_L (SOP, 24-Leads, Body 8.2x5.3mm, Pitch 0.65mm, IPC High Density)
footprint RS-24_M (SOP, 24-Leads, Body 8.2x5.3mm, Pitch 0.65mm, IPC Low Density)
pins: 1 ~{CS}/SERIAL (in) "Chip Select/Serial Input. When driven with normal logic levels, it is an active low logic input which is used in conjunction with W\R\ to load parallel data to the input latch. For applications where C\S\ is permanently low, (See Datasheet)", 2 ~{WR}/~{SYNC} (in) "Write/Frame Synchronization Input. In the parallel data mode, it is used in conjunction with C\S\ to load parallel data. In the serial mode of operation, this pin functions as a Frame Synchronization pulse with serial data (See Datasheet)", 3 D13/SDATA (in) "Data Bit 13(MSB)/Serial Data. When parallel data is selected, this pin is the D13 input. In serial mode, SDATA is the serial data input which is used in conjunction with S\Y\N\C\ and SCLK to transfer serial data to the (See Datasheet)", 4 D12/SCLK (in) "Data Bit 12/Serial Clock. When parallel data is selected, this pin is the D12 input. In the serial mode, it is the serial clock input. Serial data bits are latched on the falling edge of SCLK when S\Y\N\C\ is low.", 5 D11/FORMAT (in) "Data Bit 11/Data Format. When parallel data is selected, this pin is the D11 input. In serial mode, a Logic 1 on this input indicates that the MSB is the first valid bit in the serial data stream. A Logic 0 indicates that (See Datasheet)", 6 D10/JUSTIFY (in) "Data Bit 10/Data Justification. When parallel data is selected, this pin is the D10 input. In serial mode, this input controls the serial data justification (see Table I).", 7 D9 (in) "Data Bit 9. Parallel data input.", 8 D8 (in) "Data Bit 8. Parallel data input.", 9 D7 (in) "Data Bit 7. Parallel data input.", 10 D6 (in) "Data Bit 6. Parallel data input.", 11 D5 (in) "Data Bit 5. Parallel data input.", 12 DGND (power) "Digital Ground. Ground reference for digital circuitry.", 13 D4 (in) "Data Bit 4. Parallel data input.", 14 D3 (in) "Data Bit 3. Parallel data input.", 15 D2 (in) "Data Bit 2. Parallel data input.", 16 D1 (in) "Data Bit 1. Parallel data input.", 17 D0 (in) "Data Bit 0 (LSB). Parallel data input.", 18 VDD (power) "Positive Supply, +5 V +/- 5%.", 19 AGND (power) "Analog Ground. Ground reference for DAC, reference and output buffer amplifier.", 20 VOUT (out) "Analog Output Voltage. This is the buffer amplifier output voltage. Bipolar output range (+/-3 V with REF IN = +3 V).", 21 VSS (power) "Negative Supply Voltage, -5 V +/- 5%.", 22 REF OUT (out) "Voltage Reference Output. The internal 3 V analog reference is provided at this pin. To operate the AD7840 with internal reference, REF OUT should be connected to REF IN. The external load capability of the reference is 500 (See Datasheet)", 23 REF IN (in) "Voltage Reference Input. The reference voltage for the DAC is applied to this pin. It is internally buffered before being applied to the DAC. The nominal reference voltage for correct operation of the AD7840 is 3 V.", 24 ~{LDAC} (in) "Load DAC. Logic Input. A new word is loaded into the DAC latch from the input latch on the falling edge of this signal (see Interface Logic Information section). The AD7840 should be powered-up with L\D\A\C\ high. For (See Datasheet)"

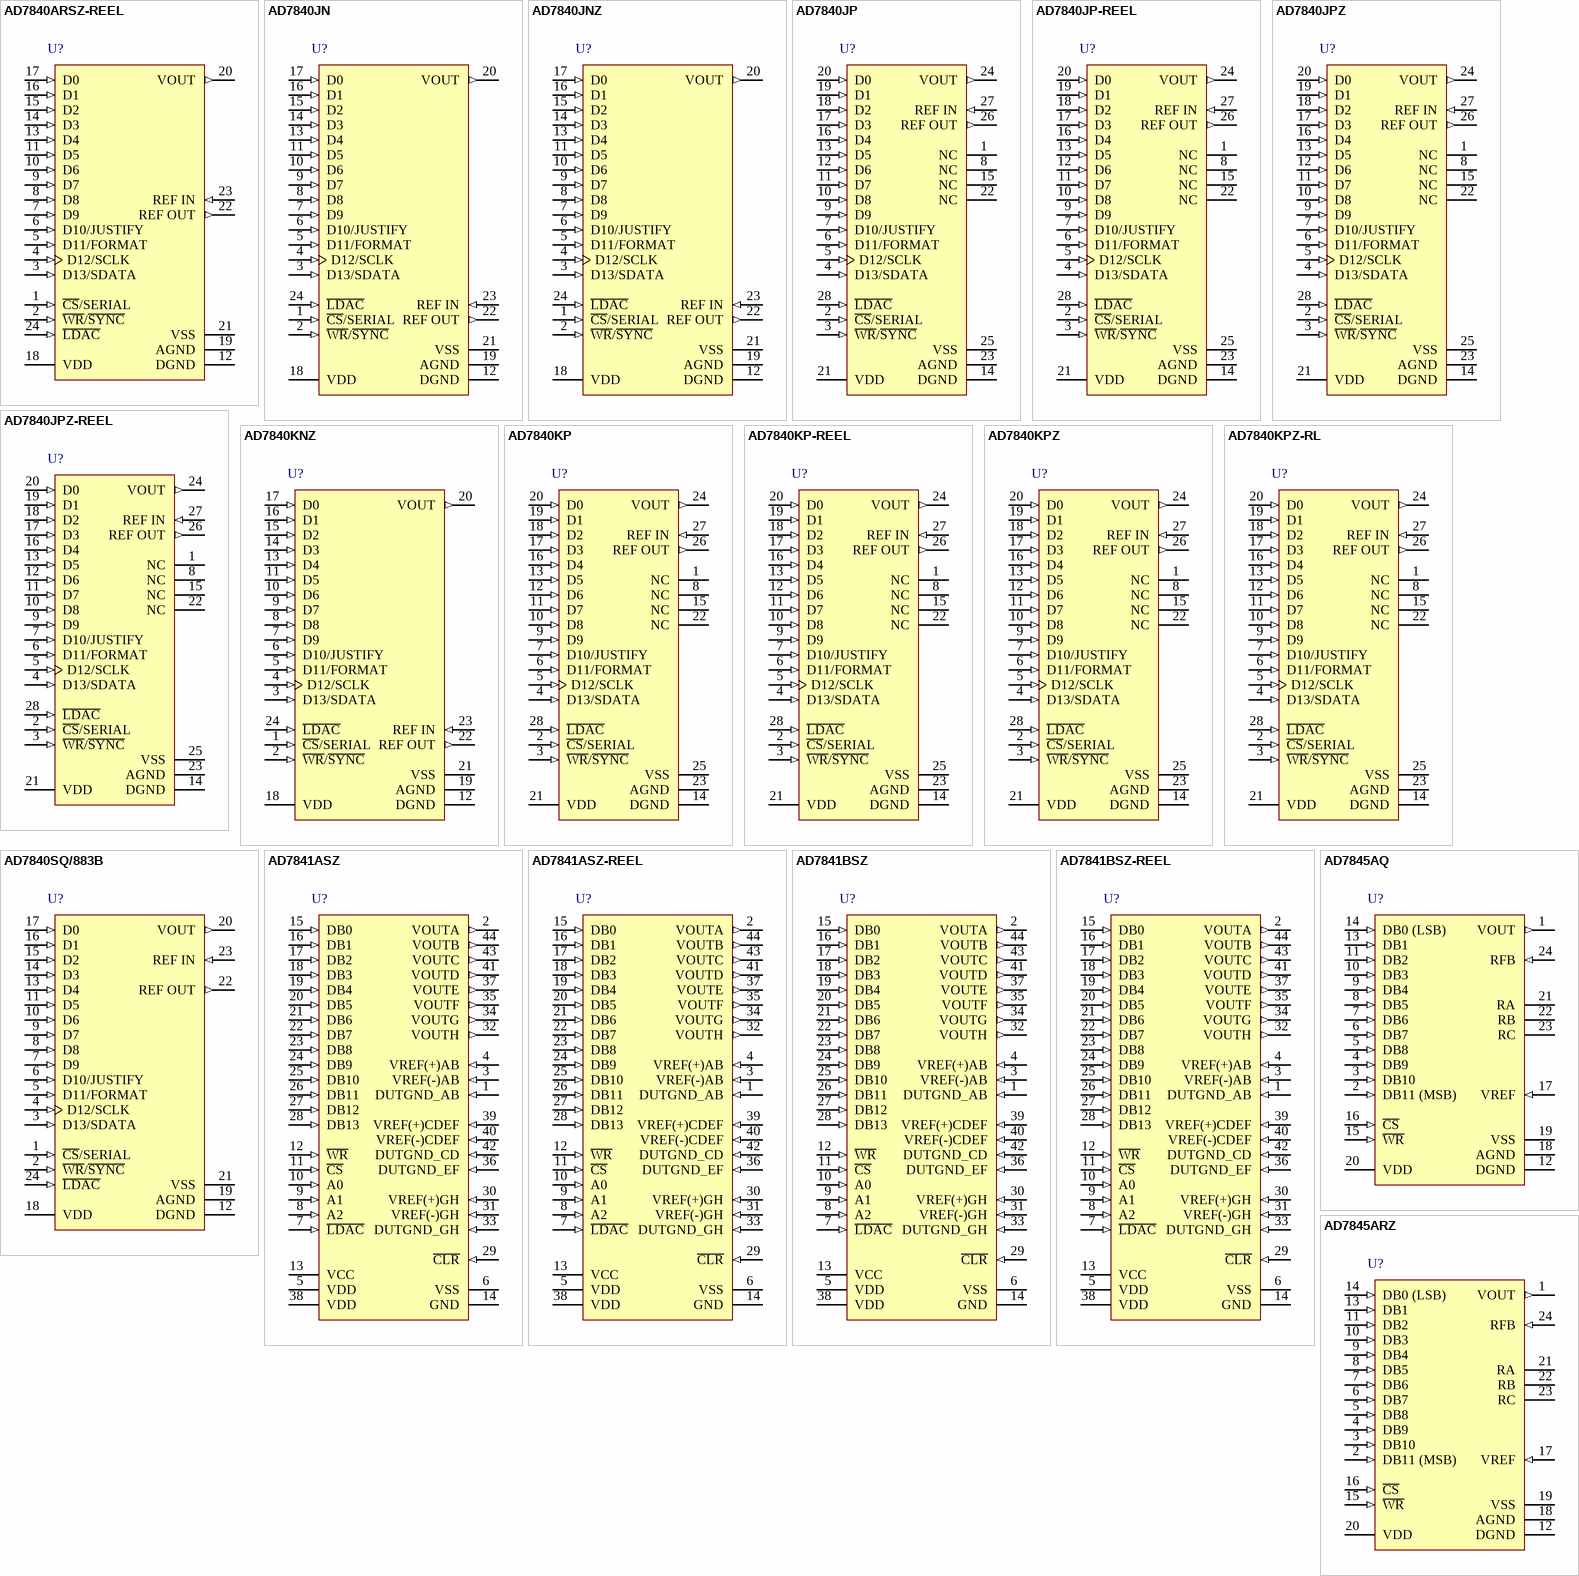
[diagram p76: symbols AD7840ARSZ-REEL to AD7845ARZ]

## AD7840ARSZ-REEL
designator U?
Single 14-Bit LC2MOS Complete Digital-to-Analog Converter, 0 to +70 degC, RS-24, Pb-Free, Reel; Generic Part Number: AD7840; Manufacturer: Analog Devices; PartNumber: AD7840ARSZ-REEL; # DAC Outputs: 1; Max V+: 5.25V; Op Pwr Diss: 110mW; Resolution (Bits): 14; Settling Time: 2.5µs; Single Supply: No; DatasheetVersion: Rev.B; PackageVersion: Jan-2004; PackageReference: RS-24; PackageDescription: 24-Lead Shrink Small Outline Package [SSOP]; Supplier 1: Digi-Key; Supplier Part Number 1: AD7840ARSZ-REEL-ND; Supplier 2: Newark; Supplier Part Number 2: 59K5635; Supplier 3: Mouser; Supplier Part Number 3: 584-AD7840ARSZ-R; Packing: Reel; RoHS: Y; Mounting Technology: Surface Mount; Code_JEDEC: MO-150-AG; ComponentLink1Description: Manufacturer URL; ComponentLink1URL: http://www.analog.com/en/index.html; ComponentLink2Description: Datasheet; ComponentLink2URL: http://www.analog.com/static/imported-files/data_sheets/AD7840.pdf; ComponentLink3Description: Package Specification; ComponentLink3URL: http://www.analog.com/static/imported-files/packages/320374674442511497835109639857509214147739880195087340RS_24.pdf; ComponentLink4Description: Product URL; ComponentLink4URL: http://www.analog.com/en/digital-to-analog-converters/da-converters/ad7840/products/product.html
footprint RS-24_N (SOP, 24-Leads, Body 8.2x5.3mm, Pitch 0.65mm, IPC Medium Density)
footprint RS-24_L (SOP, 24-Leads, Body 8.2x5.3mm, Pitch 0.65mm, IPC High Density)
footprint RS-24_M (SOP, 24-Leads, Body 8.2x5.3mm, Pitch 0.65mm, IPC Low Density)
pins: 1 ~{CS}/SERIAL (in) "Chip Select/Serial Input. When driven with normal logic levels, it is an active low logic input which is used in conjunction with W\R\ to load parallel data to the input latch. For applications where C\S\ is permanently low, (See Datasheet)", 2 ~{WR}/~{SYNC} (in) "Write/Frame Synchronization Input. In the parallel data mode, it is used in conjunction with C\S\ to load parallel data. In the serial mode of operation, this pin functions as a Frame Synchronization pulse with serial data (See Datasheet)", 3 D13/SDATA (in) "Data Bit 13(MSB)/Serial Data. When parallel data is selected, this pin is the D13 input. In serial mode, SDATA is the serial data input which is used in conjunction with S\Y\N\C\ and SCLK to transfer serial data to the (See Datasheet)", 4 D12/SCLK (in) "Data Bit 12/Serial Clock. When parallel data is selected, this pin is the D12 input. In the serial mode, it is the serial clock input. Serial data bits are latched on the falling edge of SCLK when S\Y\N\C\ is low.", 5 D11/FORMAT (in) "Data Bit 11/Data Format. When parallel data is selected, this pin is the D11 input. In serial mode, a Logic 1 on this input indicates that the MSB is the first valid bit in the serial data stream. A Logic 0 indicates that (See Datasheet)", 6 D10/JUSTIFY (in) "Data Bit 10/Data Justification. When parallel data is selected, this pin is the D10 input. In serial mode, this input controls the serial data justification (see Table I).", 7 D9 (in) "Data Bit 9. Parallel data input.", 8 D8 (in) "Data Bit 8. Parallel data input.", 9 D7 (in) "Data Bit 7. Parallel data input.", 10 D6 (in) "Data Bit 6. Parallel data input.", 11 D5 (in) "Data Bit 5. Parallel data input.", 12 DGND (power) "Digital Ground. Ground reference for digital circuitry.", 13 D4 (in) "Data Bit 4. Parallel data input.", 14 D3 (in) "Data Bit 3. Parallel data input.", 15 D2 (in) "Data Bit 2. Parallel data input.", 16 D1 (in) "Data Bit 1. Parallel data input.", 17 D0 (in) "Data Bit 0 (LSB). Parallel data input.", 18 VDD (power) "Positive Supply, +5 V +/- 5%.", 19 AGND (power) "Analog Ground. Ground reference for DAC, reference and output buffer amplifier.", 20 VOUT (out) "Analog Output Voltage. This is the buffer amplifier output voltage. Bipolar output range (+/-3 V with REF IN = +3 V).", 21 VSS (power) "Negative Supply Voltage, -5 V +/- 5%.", 22 REF OUT (out) "Voltage Reference Output. The internal 3 V analog reference is provided at this pin. To operate the AD7840 with internal reference, REF OUT should be connected to REF IN. The external load capability of the reference is 500 (See Datasheet)", 23 REF IN (in) "Voltage Reference Input. The reference voltage for the DAC is applied to this pin. It is internally buffered before being applied to the DAC. The nominal reference voltage for correct operation of the AD7840 is 3 V.", 24 ~{LDAC} (in) "Load DAC. Logic Input. A new word is loaded into the DAC latch from the input latch on the falling edge of this signal (see Interface Logic Information section). The AD7840 should be powered-up with L\D\A\C\ high. For (See Datasheet)"